# Altium integrated library BTS7960B.IntLib: 1 symbol
Pins are listed as number, name and electrical type; pins without a type are passive.

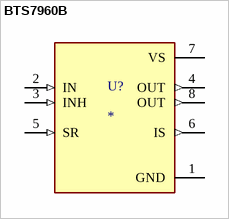
[diagram p0: symbol BTS7960B]

## BTS7960B
designator U?
Half Bridge Driver DC Motors, General Purpose DMOS PG-TO263-7-1; MF: Infineon; MP: BTS7960B; SnapEDA_Link: https://www.snapeda.com/parts/BTS7960B/Infineon/view-part/?ref=snap; Package: TO-263 Infineon; Value: *; Check_prices: https://www.snapeda.com/parts/BTS7960B/Infineon/view-part/?ref=eda
footprint DPAK127P1490X440-8N
pins: 1 GND (power), 2 IN (in), 3 INH (in), 4 OUT (out), 5 SR (in), 6 IS (out), 7 VS (power), 8 OUT (out)